# EAGLE library part MCU_CY8C29466 (library akita)
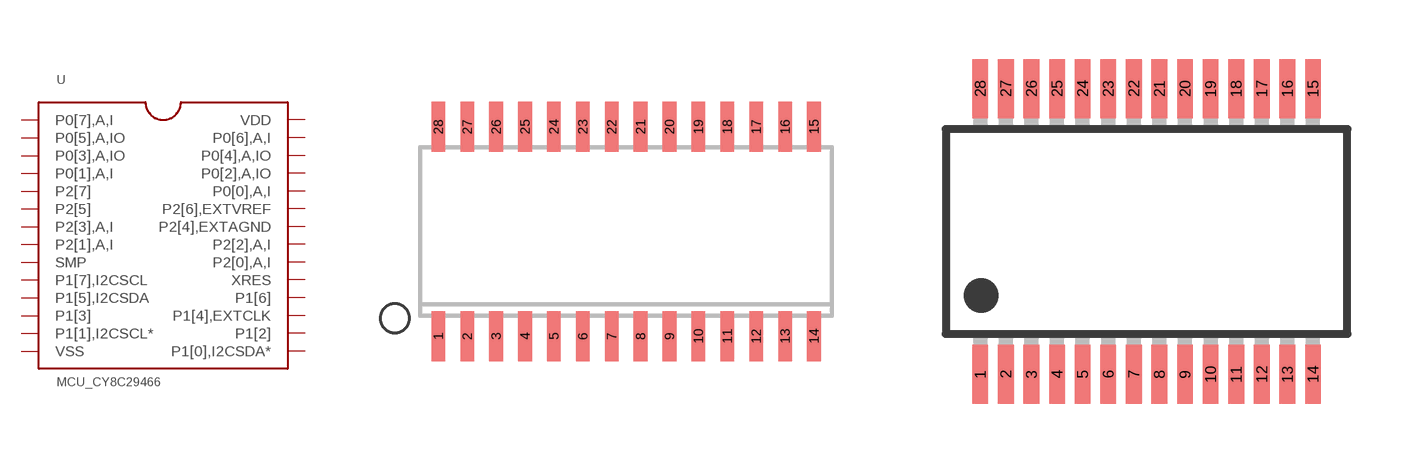
[diagram p23: symbol with the pads of SO28W; footprints SO28W, SSOP28]

Designator prefix U

## MCU_CY8C29466SO28  [SO28W]
1  P0[7],A,I
2  P0[5],A,IO
3  P0[3],A,IO
4  P0[1],A,I
5  P2[7]
6  P2[5]
7  P2[3],A,I
8  P2[1],A,I
9  SMP  pwr
10  P1[7],I2CSCL
11  P1[5],I2CSDA
12  P1[3]
13  P1[1],I2CSCL*
14  VSS  pwr
15  P1[0],I2CSDA*
16  P1[2]
17  P1[4],EXTCLK
18  P1[6]
19  XRES
20  P2[0],A,I
21  P2[2],A,I
22  P2[4],EXTAGND
23  P2[6],EXTVREF
24  P0[0],A,I
25  P0[2],A,IO
26  P0[4],A,IO
27  P0[6],A,I
28  VDD  pwr

## MCU_CY8C29466SSOP28  [SSOP28]
Pads as for SO28W

## MCU_CY8C29466DIP28  [DIP-28P(300MIL)]
P$1  P0[7],A,I
P$2  P0[5],A,IO
P$3  P0[3],A,IO
P$4  P0[1],A,I
P$5  P2[7]
P$6  P2[5]
P$7  P2[3],A,I
P$8  P2[1],A,I
P$9  SMP  pwr
P$10  P1[7],I2CSCL
P$11  P1[5],I2CSDA
P$12  P1[3]
P$13  P1[1],I2CSCL*
P$14  VSS  pwr
P$15  P1[0],I2CSDA*
P$16  P1[2]
P$17  P1[4],EXTCLK
P$18  P1[6]
P$19  XRES
P$20  P2[0],A,I
P$21  P2[2],A,I
P$22  P2[4],EXTAGND
P$23  P2[6],EXTVREF
P$24  P0[0],A,I
P$25  P0[2],A,IO
P$26  P0[4],A,IO
P$27  P0[6],A,I
P$28  VDD  pwr

## MCU_CY8C29466DIP28L  [DIP-28P(300MIL)L]
Pads as for DIP-28P(300MIL)

## Footprint SO28W (pad centres in mm)
SMALL OUTLINE INTEGRATED CIRCUIT wide body 7.5 mm/JEDEC MO-119AB
smd 0.6 x 2.2: 1 -8.255,-4.6; 2 -6.985,-4.6; 3 -5.715,-4.6; 4 -4.445,-4.6; 5 -3.175,-4.6; 6 -1.905,-4.6; 7 -0.635,-4.6; 8 0.635,-4.6; 9 1.905,-4.6; 10 3.175,-4.6; 11 4.445,-4.6; 12 5.715,-4.6; 13 6.985,-4.6; 14 8.255,-4.6; 15 8.255,4.6; 16 6.985,4.6; 17 5.715,4.6; 18 4.445,4.6; 19 3.175,4.6; 20 1.905,4.6; 21 0.635,4.6; 22 -0.635,4.6; 23 -1.905,4.6; 24 -3.175,4.6; 25 -4.445,4.6; 26 -5.715,4.6; 27 -6.985,4.6; 28 -8.255,4.6

## Footprint SSOP28 (pad centres in mm)
Shrink Small Outline Package SSOP-28 http://www.ftdichip.com/Documents/DataSheets/DS_FT232R_v104.pdf
smd 0.4 x 1.5: 1 -4.225,-3.625; 2 -3.575,-3.625; 3 -2.925,-3.625; 4 -2.275,-3.625; 5 -1.625,-3.625; 6 -0.975,-3.625; 7 -0.325,-3.625; 8 0.325,-3.625; 9 0.975,-3.625; 10 1.625,-3.625; 11 2.275,-3.625; 12 2.925,-3.625; 13 3.575,-3.625; 14 4.225,-3.625; 15 4.225,3.625; 16 3.575,3.625; 17 2.925,3.625; 18 2.275,3.625; 19 1.625,3.625; 20 0.975,3.625; 21 0.325,3.625; 22 -0.325,3.625; 23 -0.975,3.625; 24 -1.625,3.625; 25 -2.275,3.625; 26 -2.925,3.625; 27 -3.575,3.625; 28 -4.225,3.625

## Footprint DIP-28P(300MIL) (pad centres in mm)
drill 0.9: P$1 -17.78,-3.81; P$2 -15.24,-3.81; P$3 -12.7,-3.81; P$4 -10.16,-3.81; P$5 -7.62,-3.81; P$6 -5.08,-3.81; P$7 -2.54,-3.81; P$8 0,-3.81; P$9 2.54,-3.81; P$10 5.08,-3.81; P$11 7.62,-3.81; P$12 10.16,-3.81; P$13 12.7,-3.81; P$14 15.24,-3.81; P$15 15.24,3.81; P$16 12.7,3.81; P$17 10.16,3.81; P$18 7.62,3.81; P$19 5.08,3.81; P$20 2.54,3.81; P$21 0,3.81; P$22 -2.54,3.81; P$23 -5.08,3.81; P$24 -7.62,3.81; P$25 -10.16,3.81; P$26 -12.7,3.81; P$27 -15.24,3.81; P$28 -17.78,3.81

## Footprint DIP-28P(300MIL)L (pad centres in mm)
drill 0.9 pad 1.676: P$1 -17.78,-3.81; P$2 -15.24,-3.81; P$3 -12.7,-3.81; P$4 -10.16,-3.81; P$5 -7.62,-3.81; P$6 -5.08,-3.81; P$7 -2.54,-3.81; P$8 0,-3.81; P$9 2.54,-3.81; P$10 5.08,-3.81; P$11 7.62,-3.81; P$12 10.16,-3.81; P$13 12.7,-3.81; P$14 15.24,-3.81; P$15 15.24,3.81; P$16 12.7,3.81; P$17 10.16,3.81; P$18 7.62,3.81; P$19 5.08,3.81; P$20 2.54,3.81; P$21 0,3.81; P$22 -2.54,3.81; P$23 -5.08,3.81; P$24 -7.62,3.81; P$25 -10.16,3.81; P$26 -12.7,3.81; P$27 -15.24,3.81; P$28 -17.78,3.81